# EAGLE library part M25P40 (library IC)
ST Micro M25P40 4 Mbit Serial Flash Memory
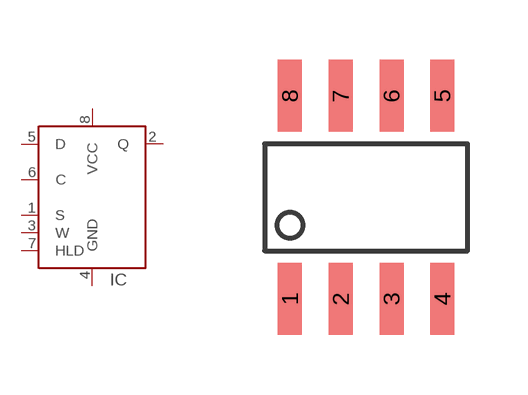
[diagram p55: symbol with the pads of SOIC8; footprint SOIC8]

Designator prefix IC

## M25P40-SO8  [SOIC8]
1  S
2  Q  out
3  W
4  GND  pwr
5  D  in
6  C
7  HLD
8  VCC  pwr

## Footprint SOIC8 (pad centres in mm)
8 pin SOIC 150-mil package
smd 0.6 x 1.8: 1 -1.905,-2.54; 2 -0.635,-2.54; 3 0.635,-2.54; 4 1.905,-2.54; 5 1.905,2.54; 6 0.635,2.54; 7 -0.635,2.54; 8 -1.905,2.54